# Altium schematic symbol library Antenna.SchLib: 3 symbols
Pins are listed as number, name and electrical type; pins without a type are passive.

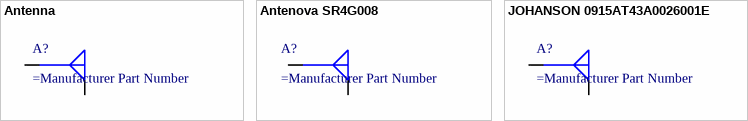
[diagram p0: symbols Antenna to JOHANSON 0915AT43A0026001E]

## Antenna
designator A?
footprint ANTENOVA SR42W001
footprint ANTC3216X140N
pins: G, S

## Antenova SR4G008
designator A?
1.561GHz, 1.575GHz, 1.602GHz Beidou, Galileo, GLONASS, GPS Chip RF Antenna 1.559GHz ~ 1.609GHz 3dBi Solder Surface Mount
footprint ANTENOVA SR4G008
pins: G, S

## JOHANSON 0915AT43A0026001E
designator A?
footprint JOHANSON 0915AT43A0026001E
pins: 1, 2